# Altium footprint library TI Power Management Lighting and Display.PcbLib: 148 footprints (part 5 of 10)
Each footprint in its own frame and in the unit in brackets; x right, y up, seen from the top. Pads: shape width x height; smd on the part's side, far side on the other; paste and mask are expansions set on the pad; w line width, h text height; cw(c..) or ccw(c..) is an arc to the next point about the centre after c.
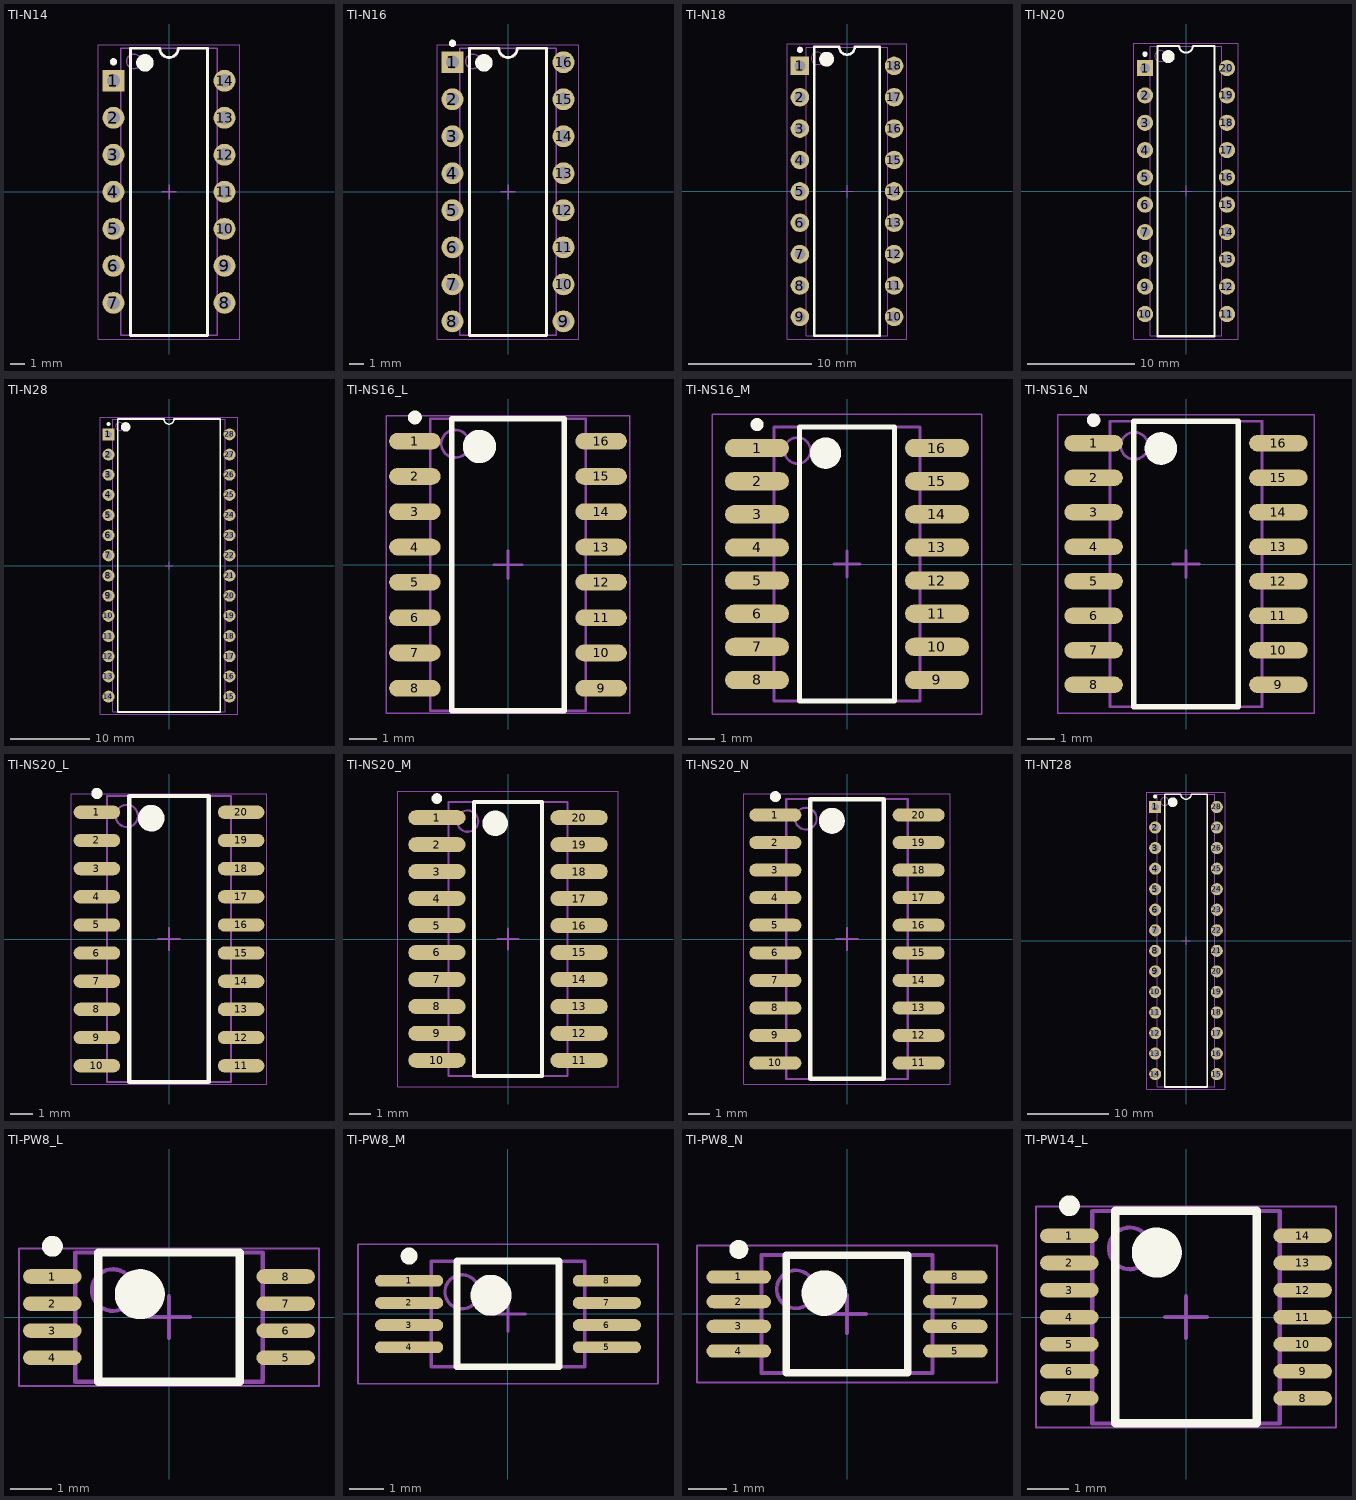
[diagram p4: the footprints below, top view; thin cyan lines are the x and y axes]

## TI-N14 [mm] "DIP, 14-Leads, Body 19.305x6.35 mm, Pitch 2.54 mm"
height 5.08
pads (14):
  rect 1.5x1.5 hole 0.9: 1(-3.81,7.62)
  round 1.5 hole 0.9: 2(-3.81,5.08) 3(-3.81,2.54) 4(-3.81,0) 5(-3.81,-2.54) 6(-3.81,-5.08) 7(-3.81,-7.62) 8(3.81,-7.62) 9(3.81,-5.08) 10(3.81,-2.54) 11(3.81,0) 12(3.81,2.54) 13(3.81,5.08) 14(3.81,7.62)
Top Overlay:
  circle w0.6: c-1.65,8.85 r0.3
  circle w0.25: c-3.81,8.92 r0.125
  lines w0.2: -2.65,-9.85 2.65,-9.85 2.65,9.85 0.635,9.85 cw(c0,9.85) -0.635,9.85 -2.65,9.85 -2.65,-9.85
Mechanical 13:
  circle w0.1: c-2.4,8.95 r0.5
  lines w0.1: -3.3,-9.85 3.3,-9.85 3.3,9.85 -3.3,9.85 -3.3,-9.85
Mechanical 15:
  lines w0.05: -4.85,-10.1 4.85,-10.1 4.85,10.1 -4.85,10.1 -4.85,-10.1
  lines w0.1: -0.5,0 0.5,0 ; 0,-0.5 0,0.5
3D body: height 5.08, standoff 0.51, extent -3.3,-9.85 3.3,9.85

## TI-N16 [mm] "DIP, 16-Leads, Body 19.305x6.35 mm, Pitch 2.54 mm"
height 5.08
pads (16):
  rect 1.5x1.5 hole 0.9: 1(-3.81,8.89)
  round 1.5 hole 0.9: 2(-3.81,6.35) 3(-3.81,3.81) 4(-3.81,1.27) 5(-3.81,-1.27) 6(-3.81,-3.81) 7(-3.81,-6.35) 8(-3.81,-8.89) 9(3.81,-8.89) 10(3.81,-6.35) 11(3.81,-3.81) 12(3.81,-1.27) 13(3.81,1.27) 14(3.81,3.81) 15(3.81,6.35) 16(3.81,8.89)
Top Overlay:
  circle w0.25: c-3.81,10.19 r0.125
  circle w0.6: c-1.65,8.85 r0.3
  lines w0.2: -2.65,-9.85 -2.65,9.85 -0.635,9.85 ccw(c0,9.85) 0.635,9.85 2.65,9.85 2.65,-9.85 -2.65,-9.85
Mechanical 13:
  circle w0.1: c-2.4,8.95 r0.5
  lines w0.1: -3.3,-9.85 -3.3,9.85 3.3,9.85 3.3,-9.85 -3.3,-9.85
Mechanical 15:
  lines w0.05: -4.85,-10.1 -4.85,10.1 4.85,10.1 4.85,-10.1 -4.85,-10.1
  lines w0.1: -0.5,0 0.5,0 ; 0,-0.5 0,0.5
3D body: height 2.66, standoff 0, extent -3.945,8.39 -3.675,9.39
3D body: height 2.93, standoff 2.66, extent -3.945,8.39 -3.3,9.39
3D body: height 0, standoff -1.6, extent -3.945,8.53 -3.675,9.25
3D body: height 2.66, standoff 0, extent -3.945,5.85 -3.675,6.85
3D body: height 2.93, standoff 2.66, extent -3.945,5.85 -3.3,6.85
3D body: height 0, standoff -1.6, extent -3.945,5.99 -3.675,6.71
3D body: height 2.66, standoff 0, extent -3.945,3.31 -3.675,4.31
3D body: height 2.93, standoff 2.66, extent -3.945,3.31 -3.3,4.31
3D body: height 0, standoff -1.6, extent -3.945,3.45 -3.675,4.17
3D body: height 2.66, standoff 0, extent -3.945,0.77 -3.675,1.77
3D body: height 2.93, standoff 2.66, extent -3.945,0.77 -3.3,1.77
3D body: height 0, standoff -1.6, extent -3.945,0.91 -3.675,1.63
3D body: height 2.66, standoff 0, extent -3.945,-1.77 -3.675,-0.77
3D body: height 2.93, standoff 2.66, extent -3.945,-1.77 -3.3,-0.77
3D body: height 0, standoff -1.6, extent -3.945,-1.63 -3.675,-0.91
3D body: height 2.66, standoff 0, extent -3.945,-4.31 -3.675,-3.31
3D body: height 2.93, standoff 2.66, extent -3.945,-4.31 -3.3,-3.31
3D body: height 0, standoff -1.6, extent -3.945,-4.17 -3.675,-3.45
3D body: height 2.66, standoff 0, extent -3.945,-6.85 -3.675,-5.85
3D body: height 2.93, standoff 2.66, extent -3.945,-6.85 -3.3,-5.85
3D body: height 0, standoff -1.6, extent -3.945,-6.71 -3.675,-5.99
3D body: height 2.66, standoff 0, extent -3.945,-9.39 -3.675,-8.39
3D body: height 2.93, standoff 2.66, extent -3.945,-9.39 -3.3,-8.39
3D body: height 0, standoff -1.6, extent -3.945,-9.25 -3.675,-8.53
3D body: height 2.66, standoff 0, extent 3.675,-9.39 3.945,-8.39
3D body: height 2.93, standoff 2.66, extent 3.3,-9.39 3.945,-8.39
3D body: height 0, standoff -1.6, extent 3.675,-9.25 3.945,-8.53
3D body: height 2.66, standoff 0, extent 3.675,-6.85 3.945,-5.85
3D body: height 2.93, standoff 2.66, extent 3.3,-6.85 3.945,-5.85
3D body: height 0, standoff -1.6, extent 3.675,-6.71 3.945,-5.99
3D body: height 2.66, standoff 0, extent 3.675,-4.31 3.945,-3.31
3D body: height 2.93, standoff 2.66, extent 3.3,-4.31 3.945,-3.31
3D body: height 0, standoff -1.6, extent 3.675,-4.17 3.945,-3.45
3D body: height 2.66, standoff 0, extent 3.675,-1.77 3.945,-0.77
3D body: height 2.93, standoff 2.66, extent 3.3,-1.77 3.945,-0.77
3D body: height 0, standoff -1.6, extent 3.675,-1.63 3.945,-0.91
3D body: height 2.66, standoff 0, extent 3.675,0.77 3.945,1.77
3D body: height 2.93, standoff 2.66, extent 3.3,0.77 3.945,1.77
3D body: height 0, standoff -1.6, extent 3.675,0.91 3.945,1.63
3D body: height 2.66, standoff 0, extent 3.675,3.31 3.945,4.31
3D body: height 2.93, standoff 2.66, extent 3.3,3.31 3.945,4.31
3D body: height 0, standoff -1.6, extent 3.675,3.45 3.945,4.17
3D body: height 2.66, standoff 0, extent 3.675,5.85 3.945,6.85
3D body: height 2.93, standoff 2.66, extent 3.3,5.85 3.945,6.85
3D body: height 0, standoff -1.6, extent 3.675,5.99 3.945,6.71
3D body: height 2.66, standoff 0, extent 3.675,8.39 3.945,9.39
3D body: height 2.93, standoff 2.66, extent 3.3,8.39 3.945,9.39
3D body: height 0, standoff -1.6, extent 3.675,8.53 3.945,9.25
3D body: height 5.08, standoff 0.51, extent -3.3,-9.85 3.3,9.85

## TI-N18 [mm] "DIP, 18-Leads, Body 22.48x6.35 mm, Pitch 2.54 mm"
height 5.08
pads (18):
  rect 1.5x1.5 hole 0.9: 1(-3.81,10.16)
  round 1.5 hole 0.9: 2(-3.81,7.62) 3(-3.81,5.08) 4(-3.81,2.54) 5(-3.81,0) 6(-3.81,-2.54) 7(-3.81,-5.08) 8(-3.81,-7.62) 9(-3.81,-10.16) 10(3.81,-10.16) 11(3.81,-7.62) 12(3.81,-5.08) 13(3.81,-2.54) 14(3.81,0) 15(3.81,2.54) 16(3.81,5.08) 17(3.81,7.62) 18(3.81,10.16)
Top Overlay:
  circle w0.25: c-3.81,11.46 r0.125
  circle w0.6: c-1.65,10.7 r0.3
  lines w0.2: -2.65,-11.7 -2.65,11.7 -0.635,11.7 ccw(c0,11.7) 0.635,11.7 2.65,11.7 2.65,-11.7 -2.65,-11.7
Mechanical 13:
  circle w0.1: c-2.4,10.775 r0.5
  lines w0.1: -3.3,-11.675 -3.3,11.675 3.3,11.675 3.3,-11.675 -3.3,-11.675
Mechanical 15:
  lines w0.05: -4.85,-11.95 -4.85,11.95 4.85,11.95 4.85,-11.95 -4.85,-11.95
  lines w0.1: -0.5,0 0.5,0 ; 0,-0.5 0,0.5
3D body: height 2.66, standoff 0, extent -3.945,9.66 -3.675,10.66
3D body: height 2.93, standoff 2.66, extent -3.945,9.66 -3.3,10.66
3D body: height 0, standoff -1.6, extent -3.945,9.8 -3.675,10.52
3D body: height 2.66, standoff 0, extent -3.945,7.12 -3.675,8.12
3D body: height 2.93, standoff 2.66, extent -3.945,7.12 -3.3,8.12
3D body: height 0, standoff -1.6, extent -3.945,7.26 -3.675,7.98
3D body: height 2.66, standoff 0, extent -3.945,4.58 -3.675,5.58
3D body: height 2.93, standoff 2.66, extent -3.945,4.58 -3.3,5.58
3D body: height 0, standoff -1.6, extent -3.945,4.72 -3.675,5.44
3D body: height 2.66, standoff 0, extent -3.945,2.04 -3.675,3.04
3D body: height 2.93, standoff 2.66, extent -3.945,2.04 -3.3,3.04
3D body: height 0, standoff -1.6, extent -3.945,2.18 -3.675,2.9
3D body: height 2.66, standoff 0, extent -3.945,-0.5 -3.675,0.5
3D body: height 2.93, standoff 2.66, extent -3.945,-0.5 -3.3,0.5
3D body: height 0, standoff -1.6, extent -3.945,-0.36 -3.675,0.36
3D body: height 2.66, standoff 0, extent -3.945,-3.04 -3.675,-2.04
3D body: height 2.93, standoff 2.66, extent -3.945,-3.04 -3.3,-2.04
3D body: height 0, standoff -1.6, extent -3.945,-2.9 -3.675,-2.18
3D body: height 2.66, standoff 0, extent -3.945,-5.58 -3.675,-4.58
3D body: height 2.93, standoff 2.66, extent -3.945,-5.58 -3.3,-4.58
3D body: height 0, standoff -1.6, extent -3.945,-5.44 -3.675,-4.72
3D body: height 2.66, standoff 0, extent -3.945,-8.12 -3.675,-7.12
3D body: height 2.93, standoff 2.66, extent -3.945,-8.12 -3.3,-7.12
3D body: height 0, standoff -1.6, extent -3.945,-7.98 -3.675,-7.26
3D body: height 2.66, standoff 0, extent -3.945,-10.66 -3.675,-9.66
3D body: height 2.93, standoff 2.66, extent -3.945,-10.66 -3.3,-9.66
3D body: height 0, standoff -1.6, extent -3.945,-10.52 -3.675,-9.8
3D body: height 2.66, standoff 0, extent 3.675,-10.66 3.945,-9.66
3D body: height 2.93, standoff 2.66, extent 3.3,-10.66 3.945,-9.66
3D body: height 0, standoff -1.6, extent 3.675,-10.52 3.945,-9.8
3D body: height 2.66, standoff 0, extent 3.675,-8.12 3.945,-7.12
3D body: height 2.93, standoff 2.66, extent 3.3,-8.12 3.945,-7.12
3D body: height 0, standoff -1.6, extent 3.675,-7.98 3.945,-7.26
3D body: height 2.66, standoff 0, extent 3.675,-5.58 3.945,-4.58
3D body: height 2.93, standoff 2.66, extent 3.3,-5.58 3.945,-4.58
3D body: height 0, standoff -1.6, extent 3.675,-5.44 3.945,-4.72
3D body: height 2.66, standoff 0, extent 3.675,-3.04 3.945,-2.04
3D body: height 2.93, standoff 2.66, extent 3.3,-3.04 3.945,-2.04
3D body: height 0, standoff -1.6, extent 3.675,-2.9 3.945,-2.18
3D body: height 2.66, standoff 0, extent 3.675,-0.5 3.945,0.5
3D body: height 2.93, standoff 2.66, extent 3.3,-0.5 3.945,0.5
3D body: height 0, standoff -1.6, extent 3.675,-0.36 3.945,0.36
3D body: height 2.66, standoff 0, extent 3.675,2.04 3.945,3.04
3D body: height 2.93, standoff 2.66, extent 3.3,2.04 3.945,3.04
3D body: height 0, standoff -1.6, extent 3.675,2.18 3.945,2.9
3D body: height 2.66, standoff 0, extent 3.675,4.58 3.945,5.58
3D body: height 2.93, standoff 2.66, extent 3.3,4.58 3.945,5.58
3D body: height 0, standoff -1.6, extent 3.675,4.72 3.945,5.44
3D body: height 2.66, standoff 0, extent 3.675,7.12 3.945,8.12
3D body: height 2.93, standoff 2.66, extent 3.3,7.12 3.945,8.12
3D body: height 0, standoff -1.6, extent 3.675,7.26 3.945,7.98
3D body: height 2.66, standoff 0, extent 3.675,9.66 3.945,10.66
3D body: height 2.93, standoff 2.66, extent 3.3,9.66 3.945,10.66
3D body: height 0, standoff -1.6, extent 3.675,9.8 3.945,10.52
3D body: height 5.08, standoff 0.51, extent -3.3,-11.675 3.3,11.675

## TI-N20 [mm] "DIP, 20-Leads, Body 25.4x6.35 mm, Pitch 2.54 mm"
height 5.08
pads (20):
  rect 1.5x1.5 hole 0.9: 1(-3.81,11.43)
  round 1.5 hole 0.9: 2(-3.81,8.89) 3(-3.81,6.35) 4(-3.81,3.81) 5(-3.81,1.27) 6(-3.81,-1.27) 7(-3.81,-3.81) 8(-3.81,-6.35) 9(-3.81,-8.89) 10(-3.81,-11.43) 11(3.81,-11.43) 12(3.81,-8.89) 13(3.81,-6.35) 14(3.81,-3.81) 15(3.81,-1.27) 16(3.81,1.27) 17(3.81,3.81) 18(3.81,6.35) 19(3.81,8.89) 20(3.81,11.43)
Top Overlay:
  circle w0.25: c-3.81,12.73 r0.125
  circle w0.6: c-1.65,12.5 r0.3
  lines w0.2: -2.65,-13.5 -2.65,13.5 -0.635,13.5 ccw(c0,13.5) 0.635,13.5 2.65,13.5 2.65,-13.5 -2.65,-13.5
Mechanical 13:
  circle w0.1: c-2.4,12.55 r0.5
  lines w0.1: -3.3,-13.45 -3.3,13.45 3.3,13.45 3.3,-13.45 -3.3,-13.45
Mechanical 15:
  lines w0.05: -4.85,-13.75 -4.85,13.75 4.85,13.75 4.85,-13.75 -4.85,-13.75
  lines w0.1: -0.5,0 0.5,0 ; 0,-0.5 0,0.5
3D body: height 2.66, standoff 0, extent -3.945,10.93 -3.675,11.93
3D body: height 2.93, standoff 2.66, extent -3.945,10.93 -3.3,11.93
3D body: height 0, standoff -1.6, extent -3.945,11.07 -3.675,11.79
3D body: height 2.66, standoff 0, extent -3.945,8.39 -3.675,9.39
3D body: height 2.93, standoff 2.66, extent -3.945,8.39 -3.3,9.39
3D body: height 0, standoff -1.6, extent -3.945,8.53 -3.675,9.25
3D body: height 2.66, standoff 0, extent -3.945,5.85 -3.675,6.85
3D body: height 2.93, standoff 2.66, extent -3.945,5.85 -3.3,6.85
3D body: height 0, standoff -1.6, extent -3.945,5.99 -3.675,6.71
3D body: height 2.66, standoff 0, extent -3.945,3.31 -3.675,4.31
3D body: height 2.93, standoff 2.66, extent -3.945,3.31 -3.3,4.31
3D body: height 0, standoff -1.6, extent -3.945,3.45 -3.675,4.17
3D body: height 2.66, standoff 0, extent -3.945,0.77 -3.675,1.77
3D body: height 2.93, standoff 2.66, extent -3.945,0.77 -3.3,1.77
3D body: height 0, standoff -1.6, extent -3.945,0.91 -3.675,1.63
3D body: height 2.66, standoff 0, extent -3.945,-1.77 -3.675,-0.77
3D body: height 2.93, standoff 2.66, extent -3.945,-1.77 -3.3,-0.77
3D body: height 0, standoff -1.6, extent -3.945,-1.63 -3.675,-0.91
3D body: height 2.66, standoff 0, extent -3.945,-4.31 -3.675,-3.31
3D body: height 2.93, standoff 2.66, extent -3.945,-4.31 -3.3,-3.31
3D body: height 0, standoff -1.6, extent -3.945,-4.17 -3.675,-3.45
3D body: height 2.66, standoff 0, extent -3.945,-6.85 -3.675,-5.85
3D body: height 2.93, standoff 2.66, extent -3.945,-6.85 -3.3,-5.85
3D body: height 0, standoff -1.6, extent -3.945,-6.71 -3.675,-5.99
3D body: height 2.66, standoff 0, extent -3.945,-9.39 -3.675,-8.39
3D body: height 2.93, standoff 2.66, extent -3.945,-9.39 -3.3,-8.39
3D body: height 0, standoff -1.6, extent -3.945,-9.25 -3.675,-8.53
3D body: height 2.66, standoff 0, extent -3.945,-11.93 -3.675,-10.93
3D body: height 2.93, standoff 2.66, extent -3.945,-11.93 -3.3,-10.93
3D body: height 0, standoff -1.6, extent -3.945,-11.79 -3.675,-11.07
3D body: height 2.66, standoff 0, extent 3.675,-11.93 3.945,-10.93
3D body: height 2.93, standoff 2.66, extent 3.3,-11.93 3.945,-10.93
3D body: height 0, standoff -1.6, extent 3.675,-11.79 3.945,-11.07
3D body: height 2.66, standoff 0, extent 3.675,-9.39 3.945,-8.39
3D body: height 2.93, standoff 2.66, extent 3.3,-9.39 3.945,-8.39
3D body: height 0, standoff -1.6, extent 3.675,-9.25 3.945,-8.53
3D body: height 2.66, standoff 0, extent 3.675,-6.85 3.945,-5.85
3D body: height 2.93, standoff 2.66, extent 3.3,-6.85 3.945,-5.85
3D body: height 0, standoff -1.6, extent 3.675,-6.71 3.945,-5.99
3D body: height 2.66, standoff 0, extent 3.675,-4.31 3.945,-3.31
3D body: height 2.93, standoff 2.66, extent 3.3,-4.31 3.945,-3.31
3D body: height 0, standoff -1.6, extent 3.675,-4.17 3.945,-3.45
3D body: height 2.66, standoff 0, extent 3.675,-1.77 3.945,-0.77
3D body: height 2.93, standoff 2.66, extent 3.3,-1.77 3.945,-0.77
3D body: height 0, standoff -1.6, extent 3.675,-1.63 3.945,-0.91
3D body: height 2.66, standoff 0, extent 3.675,0.77 3.945,1.77
3D body: height 2.93, standoff 2.66, extent 3.3,0.77 3.945,1.77
3D body: height 0, standoff -1.6, extent 3.675,0.91 3.945,1.63
3D body: height 2.66, standoff 0, extent 3.675,3.31 3.945,4.31
3D body: height 2.93, standoff 2.66, extent 3.3,3.31 3.945,4.31
3D body: height 0, standoff -1.6, extent 3.675,3.45 3.945,4.17
3D body: height 2.66, standoff 0, extent 3.675,5.85 3.945,6.85
3D body: height 2.93, standoff 2.66, extent 3.3,5.85 3.945,6.85
3D body: height 0, standoff -1.6, extent 3.675,5.99 3.945,6.71
3D body: height 2.66, standoff 0, extent 3.675,8.39 3.945,9.39
3D body: height 2.93, standoff 2.66, extent 3.3,8.39 3.945,9.39
3D body: height 0, standoff -1.6, extent 3.675,8.53 3.945,9.25
3D body: height 2.66, standoff 0, extent 3.675,10.93 3.945,11.93
3D body: height 2.93, standoff 2.66, extent 3.3,10.93 3.945,11.93
3D body: height 0, standoff -1.6, extent 3.675,11.07 3.945,11.79
3D body: height 5.08, standoff 0.51, extent -3.3,-13.45 3.3,13.45

## TI-N28 [mm] "DIP, 28-Leads, Body 36.32x13.715 mm, Pitch 2.54 mm"
height 5.08
pads (28):
  rect 1.5x1.5 hole 0.9: 1(-7.62,16.51)
  round 1.5 hole 0.9: 2(-7.62,13.97) 3(-7.62,11.43) 4(-7.62,8.89) 5(-7.62,6.35) 6(-7.62,3.81) 7(-7.62,1.27) 8(-7.62,-1.27) 9(-7.62,-3.81) 10(-7.62,-6.35) 11(-7.62,-8.89) 12(-7.62,-11.43) 13(-7.62,-13.97) 14(-7.62,-16.51) 15(7.62,-16.51) 16(7.62,-13.97) 17(7.62,-11.43) 18(7.62,-8.89) 19(7.62,-6.35) 20(7.62,-3.81) 21(7.62,-1.27) 22(7.62,1.27) 23(7.62,3.81) 24(7.62,6.35) 25(7.62,8.89) 26(7.62,11.43) 27(7.62,13.97) 28(7.62,16.51)
Top Overlay:
  circle w0.25: c-7.62,17.81 r0.125
  circle w0.6: c-5.45,17.45 r0.3
  lines w0.2: -6.45,-18.45 -6.45,18.45 -0.635,18.45 ccw(c0,18.45) 0.635,18.45 6.45,18.45 6.45,-18.45 -6.45,-18.45
Mechanical 13:
  circle w0.1: c-6.2,17.525 r0.5
  lines w0.1: -7.1,-18.425 -7.1,18.425 7.1,18.425 7.1,-18.425 -7.1,-18.425
Mechanical 15:
  lines w0.05: -8.65,-18.7 -8.65,18.7 8.65,18.7 8.65,-18.7 -8.65,-18.7
  lines w0.1: -0.5,0 0.5,0 ; 0,-0.5 0,0.5
3D body: height 2.66, standoff 0, extent -7.755,16.01 -7.485,17.01
3D body: height 2.93, standoff 2.66, extent -7.755,16.01 -7.1,17.01
3D body: height 0, standoff -1.6, extent -7.755,16.15 -7.485,16.87
3D body: height 2.66, standoff 0, extent -7.755,13.47 -7.485,14.47
3D body: height 2.93, standoff 2.66, extent -7.755,13.47 -7.1,14.47
3D body: height 0, standoff -1.6, extent -7.755,13.61 -7.485,14.33
3D body: height 2.66, standoff 0, extent -7.755,10.93 -7.485,11.93
3D body: height 2.93, standoff 2.66, extent -7.755,10.93 -7.1,11.93
3D body: height 0, standoff -1.6, extent -7.755,11.07 -7.485,11.79
3D body: height 2.66, standoff 0, extent -7.755,8.39 -7.485,9.39
3D body: height 2.93, standoff 2.66, extent -7.755,8.39 -7.1,9.39
3D body: height 0, standoff -1.6, extent -7.755,8.53 -7.485,9.25
3D body: height 2.66, standoff 0, extent -7.755,5.85 -7.485,6.85
3D body: height 2.93, standoff 2.66, extent -7.755,5.85 -7.1,6.85
3D body: height 0, standoff -1.6, extent -7.755,5.99 -7.485,6.71
3D body: height 2.66, standoff 0, extent -7.755,3.31 -7.485,4.31
3D body: height 2.93, standoff 2.66, extent -7.755,3.31 -7.1,4.31
3D body: height 0, standoff -1.6, extent -7.755,3.45 -7.485,4.17
3D body: height 2.66, standoff 0, extent -7.755,0.77 -7.485,1.77
3D body: height 2.93, standoff 2.66, extent -7.755,0.77 -7.1,1.77
3D body: height 0, standoff -1.6, extent -7.755,0.91 -7.485,1.63
3D body: height 2.66, standoff 0, extent -7.755,-1.77 -7.485,-0.77
3D body: height 2.93, standoff 2.66, extent -7.755,-1.77 -7.1,-0.77
3D body: height 0, standoff -1.6, extent -7.755,-1.63 -7.485,-0.91
3D body: height 2.66, standoff 0, extent -7.755,-4.31 -7.485,-3.31
3D body: height 2.93, standoff 2.66, extent -7.755,-4.31 -7.1,-3.31
3D body: height 0, standoff -1.6, extent -7.755,-4.17 -7.485,-3.45
3D body: height 2.66, standoff 0, extent -7.755,-6.85 -7.485,-5.85
3D body: height 2.93, standoff 2.66, extent -7.755,-6.85 -7.1,-5.85
3D body: height 0, standoff -1.6, extent -7.755,-6.71 -7.485,-5.99
3D body: height 2.66, standoff 0, extent -7.755,-9.39 -7.485,-8.39
3D body: height 2.93, standoff 2.66, extent -7.755,-9.39 -7.1,-8.39
3D body: height 0, standoff -1.6, extent -7.755,-9.25 -7.485,-8.53
3D body: height 2.66, standoff 0, extent -7.755,-11.93 -7.485,-10.93
3D body: height 2.93, standoff 2.66, extent -7.755,-11.93 -7.1,-10.93
3D body: height 0, standoff -1.6, extent -7.755,-11.79 -7.485,-11.07
3D body: height 2.66, standoff 0, extent -7.755,-14.47 -7.485,-13.47
3D body: height 2.93, standoff 2.66, extent -7.755,-14.47 -7.1,-13.47
3D body: height 0, standoff -1.6, extent -7.755,-14.33 -7.485,-13.61
3D body: height 2.66, standoff 0, extent -7.755,-17.01 -7.485,-16.01
3D body: height 2.93, standoff 2.66, extent -7.755,-17.01 -7.1,-16.01
3D body: height 0, standoff -1.6, extent -7.755,-16.87 -7.485,-16.15
3D body: height 2.66, standoff 0, extent 7.485,-17.01 7.755,-16.01
3D body: height 2.93, standoff 2.66, extent 7.1,-17.01 7.755,-16.01
3D body: height 0, standoff -1.6, extent 7.485,-16.87 7.755,-16.15
3D body: height 2.66, standoff 0, extent 7.485,-14.47 7.755,-13.47
3D body: height 2.93, standoff 2.66, extent 7.1,-14.47 7.755,-13.47
3D body: height 0, standoff -1.6, extent 7.485,-14.33 7.755,-13.61
3D body: height 2.66, standoff 0, extent 7.485,-11.93 7.755,-10.93
3D body: height 2.93, standoff 2.66, extent 7.1,-11.93 7.755,-10.93
3D body: height 0, standoff -1.6, extent 7.485,-11.79 7.755,-11.07
3D body: height 2.66, standoff 0, extent 7.485,-9.39 7.755,-8.39
3D body: height 2.93, standoff 2.66, extent 7.1,-9.39 7.755,-8.39
3D body: height 0, standoff -1.6, extent 7.485,-9.25 7.755,-8.53
3D body: height 2.66, standoff 0, extent 7.485,-6.85 7.755,-5.85
3D body: height 2.93, standoff 2.66, extent 7.1,-6.85 7.755,-5.85
3D body: height 0, standoff -1.6, extent 7.485,-6.71 7.755,-5.99
3D body: height 2.66, standoff 0, extent 7.485,-4.31 7.755,-3.31
3D body: height 2.93, standoff 2.66, extent 7.1,-4.31 7.755,-3.31
3D body: height 0, standoff -1.6, extent 7.485,-4.17 7.755,-3.45
3D body: height 2.66, standoff 0, extent 7.485,-1.77 7.755,-0.77
3D body: height 2.93, standoff 2.66, extent 7.1,-1.77 7.755,-0.77
3D body: height 0, standoff -1.6, extent 7.485,-1.63 7.755,-0.91
3D body: height 2.66, standoff 0, extent 7.485,0.77 7.755,1.77
3D body: height 2.93, standoff 2.66, extent 7.1,0.77 7.755,1.77
3D body: height 0, standoff -1.6, extent 7.485,0.91 7.755,1.63
3D body: height 2.66, standoff 0, extent 7.485,3.31 7.755,4.31
3D body: height 2.93, standoff 2.66, extent 7.1,3.31 7.755,4.31
3D body: height 0, standoff -1.6, extent 7.485,3.45 7.755,4.17
3D body: height 2.66, standoff 0, extent 7.485,5.85 7.755,6.85
3D body: height 2.93, standoff 2.66, extent 7.1,5.85 7.755,6.85
3D body: height 0, standoff -1.6, extent 7.485,5.99 7.755,6.71
3D body: height 2.66, standoff 0, extent 7.485,8.39 7.755,9.39
3D body: height 2.93, standoff 2.66, extent 7.1,8.39 7.755,9.39
3D body: height 0, standoff -1.6, extent 7.485,8.53 7.755,9.25
3D body: height 2.66, standoff 0, extent 7.485,10.93 7.755,11.93
3D body: height 2.93, standoff 2.66, extent 7.1,10.93 7.755,11.93
3D body: height 0, standoff -1.6, extent 7.485,11.07 7.755,11.79
3D body: height 2.66, standoff 0, extent 7.485,13.47 7.755,14.47
3D body: height 2.93, standoff 2.66, extent 7.1,13.47 7.755,14.47
3D body: height 0, standoff -1.6, extent 7.485,13.61 7.755,14.33
3D body: height 2.66, standoff 0, extent 7.485,16.01 7.755,17.01
3D body: height 2.93, standoff 2.66, extent 7.1,16.01 7.755,17.01
3D body: height 0, standoff -1.6, extent 7.485,16.15 7.755,16.87
3D body: height 5.08, standoff 0.51, extent -7.1,-18.425 7.1,18.425

## TI-NS16_L [mm] "SOP, 16-Leads, Body 10.2x5.3mm, Pitch 1.27mm, IPC High Density"
height 2
pads (16):
  oval 1.85x0.6 smd: 1(-3.35,4.445) 2(-3.35,3.175) 3(-3.35,1.905) 4(-3.35,0.635) 5(-3.35,-0.635) 6(-3.35,-1.905) 7(-3.35,-3.175) 8(-3.35,-4.445) 9(3.35,-4.445) 10(3.35,-3.175) 11(3.35,-1.905) 12(3.35,-0.635) 13(3.35,0.635) 14(3.35,1.905) 15(3.35,3.175) 16(3.35,4.445)
Top Overlay:
  circle w0.25: c-3.35,5.295 r0.125
  circle w0.6: c-1.025,4.25 r0.3
  lines w0.2: -2.025,-5.25 -2.025,5.25 2.025,5.25 2.025,-5.25 -2.025,-5.25
Mechanical 13:
  circle w0.1: c-1.9,4.35 r0.5
  lines w0.1: -2.8,-5.25 -2.8,5.25 2.8,5.25 2.8,-5.25 -2.8,-5.25
Mechanical 15:
  lines w0.05: -4.375,-5.35 -4.375,5.35 4.375,5.35 4.375,-5.35 -4.375,-5.35
  lines w0.1: -0.5,0 0.5,0 ; 0,-0.5 0,0.5
3D body: height 2, standoff 0.05, extent -2.8,-5.25 2.8,5.25

## TI-NS16_M [mm] "SOP, 16-Leads, Body 10.2x5.3mm, Pitch 1.27mm, IPC Low Density"
height 2
pads (16):
  oval 2.45x0.7 smd: 1(-3.45,4.445) 2(-3.45,3.175) 3(-3.45,1.905) 4(-3.45,0.635) 5(-3.45,-0.635) 6(-3.45,-1.905) 7(-3.45,-3.175) 8(-3.45,-4.445) 9(3.45,-4.445) 10(3.45,-3.175) 11(3.45,-1.905) 12(3.45,-0.635) 13(3.45,0.635) 14(3.45,1.905) 15(3.45,3.175) 16(3.45,4.445)
Top Overlay:
  circle w0.25: c-3.45,5.345 r0.125
  circle w0.6: c-0.825,4.25 r0.3
  lines w0.2: -1.825,-5.25 -1.825,5.25 1.825,5.25 1.825,-5.25 -1.825,-5.25
Mechanical 13:
  circle w0.1: c-1.9,4.35 r0.5
  lines w0.1: -2.8,-5.25 -2.8,5.25 2.8,5.25 2.8,-5.25 -2.8,-5.25
Mechanical 15:
  lines w0.05: -5.175,-5.75 -5.175,5.75 5.175,5.75 5.175,-5.75 -5.175,-5.75
  lines w0.1: -0.5,0 0.5,0 ; 0,-0.5 0,0.5
3D body: height 2, standoff 0.05, extent -2.8,-5.25 2.8,5.25

## TI-NS16_N [mm] "SOP, 16-Leads, Body 10.2x5.3mm, Pitch 1.27mm, IPC Medium Density"
height 2
pads (16):
  oval 2.15x0.6 smd: 1(-3.4,4.445) 2(-3.4,3.175) 3(-3.4,1.905) 4(-3.4,0.635) 5(-3.4,-0.635) 6(-3.4,-1.905) 7(-3.4,-3.175) 8(-3.4,-4.445) 9(3.4,-4.445) 10(3.4,-3.175) 11(3.4,-1.905) 12(3.4,-0.635) 13(3.4,0.635) 14(3.4,1.905) 15(3.4,3.175) 16(3.4,4.445)
Top Overlay:
  circle w0.6: c-0.925,4.25 r0.3
  circle w0.25: c-3.4,5.295 r0.125
  lines w0.2: -1.925,-5.25 1.925,-5.25 1.925,5.25 -1.925,5.25 -1.925,-5.25
Mechanical 13:
  circle w0.1: c-1.9,4.35 r0.5
  lines w0.1: -2.8,-5.25 2.8,-5.25 2.8,5.25 -2.8,5.25 -2.8,-5.25
Mechanical 15:
  lines w0.05: -4.725,-5.5 4.725,-5.5 4.725,5.5 -4.725,5.5 -4.725,-5.5
  lines w0.1: -0.5,0 0.5,0 ; 0,-0.5 0,0.5
3D body: height 2, standoff 0.05, extent -2.8,-5.25 2.8,5.25

## TI-NS20_L [mm] "SOP, 20-Leads, Body 12.6x5.3mm, Pitch 1.27mm, IPC High Density"
height 2
pads (20):
  oval 2.1x0.6 smd: 1(-3.25,5.715) 2(-3.25,4.445) 3(-3.25,3.175) 4(-3.25,1.905) 5(-3.25,0.635) 6(-3.25,-0.635) 7(-3.25,-1.905) 8(-3.25,-3.175) 9(-3.25,-4.445) 10(-3.25,-5.715) 11(3.25,-5.715) 12(3.25,-4.445) 13(3.25,-3.175) 14(3.25,-1.905) 15(3.25,-0.635) 16(3.25,0.635) 17(3.25,1.905) 18(3.25,3.175) 19(3.25,4.445) 20(3.25,5.715)
Top Overlay:
  circle w0.25: c-3.25,6.565 r0.125
  circle w0.6: c-0.8,5.45 r0.3
  lines w0.2: -1.8,-6.45 -1.8,6.45 1.8,6.45 1.8,-6.45 -1.8,-6.45
Mechanical 13:
  circle w0.1: c-1.9,5.55 r0.5
  lines w0.1: -2.8,-6.45 -2.8,6.45 2.8,6.45 2.8,-6.45 -2.8,-6.45
Mechanical 15:
  lines w0.05: -4.4,-6.55 -4.4,6.55 4.4,6.55 4.4,-6.55 -4.4,-6.55
  lines w0.1: -0.5,0 0.5,0 ; 0,-0.5 0,0.5
3D body: height 2, standoff 0.05, extent -2.8,-6.45 2.8,6.45

## TI-NS20_M [mm] "SOP, 20-Leads, Body 12.6x5.3mm, Pitch 1.27mm, IPC Low Density"
height 2
pads (20):
  oval 2.7x0.7 smd: 1(-3.35,5.715) 2(-3.35,4.445) 3(-3.35,3.175) 4(-3.35,1.905) 5(-3.35,0.635) 6(-3.35,-0.635) 7(-3.35,-1.905) 8(-3.35,-3.175) 9(-3.35,-4.445) 10(-3.35,-5.715) 11(3.35,-5.715) 12(3.35,-4.445) 13(3.35,-3.175) 14(3.35,-1.905) 15(3.35,-0.635) 16(3.35,0.635) 17(3.35,1.905) 18(3.35,3.175) 19(3.35,4.445) 20(3.35,5.715)
Top Overlay:
  circle w0.25: c-3.35,6.615 r0.125
  circle w0.6: c-0.6,5.45 r0.3
  lines w0.2: -1.6,-6.45 -1.6,6.45 1.6,6.45 1.6,-6.45 -1.6,-6.45
Mechanical 13:
  circle w0.1: c-1.9,5.55 r0.5
  lines w0.1: -2.8,-6.45 -2.8,6.45 2.8,6.45 2.8,-6.45 -2.8,-6.45
Mechanical 15:
  lines w0.05: -5.2,-6.95 -5.2,6.95 5.2,6.95 5.2,-6.95 -5.2,-6.95
  lines w0.1: -0.5,0 0.5,0 ; 0,-0.5 0,0.5
3D body: height 2, standoff 0.05, extent -2.8,-6.45 2.8,6.45

## TI-NS20_N [mm] "SOP, 20-Leads, Body 12.6x5.3mm, Pitch 1.27mm, IPC Medium Density"
height 2
pads (20):
  oval 2.4x0.6 smd: 1(-3.3,5.715) 2(-3.3,4.445) 3(-3.3,3.175) 4(-3.3,1.905) 5(-3.3,0.635) 6(-3.3,-0.635) 7(-3.3,-1.905) 8(-3.3,-3.175) 9(-3.3,-4.445) 10(-3.3,-5.715) 11(3.3,-5.715) 12(3.3,-4.445) 13(3.3,-3.175) 14(3.3,-1.905) 15(3.3,-0.635) 16(3.3,0.635) 17(3.3,1.905) 18(3.3,3.175) 19(3.3,4.445) 20(3.3,5.715)
Top Overlay:
  circle w0.25: c-3.3,6.565 r0.125
  circle w0.6: c-0.7,5.45 r0.3
  lines w0.2: -1.7,-6.45 -1.7,6.45 1.7,6.45 1.7,-6.45 -1.7,-6.45
Mechanical 13:
  circle w0.1: c-1.9,5.55 r0.5
  lines w0.1: -2.8,-6.45 -2.8,6.45 2.8,6.45 2.8,-6.45 -2.8,-6.45
Mechanical 15:
  lines w0.05: -4.75,-6.7 -4.75,6.7 4.75,6.7 4.75,-6.7 -4.75,-6.7
  lines w0.1: -0.5,0 0.5,0 ; 0,-0.5 0,0.5
3D body: height 2, standoff 0.05, extent -2.8,-6.45 2.8,6.45

## TI-NT28 [mm] "DIP, 28-Leads, Body 35.69x6.73mm, Pitch 2.54mm"
height 5.08
pads (28):
  rect 1.5x1.5 hole 0.9: 1(-3.81,16.51)
  round 1.5 hole 0.9: 2(-3.81,13.97) 3(-3.81,11.43) 4(-3.81,8.89) 5(-3.81,6.35) 6(-3.81,3.81) 7(-3.81,1.27) 8(-3.81,-1.27) 9(-3.81,-3.81) 10(-3.81,-6.35) 11(-3.81,-8.89) 12(-3.81,-11.43) 13(-3.81,-13.97) 14(-3.81,-16.51) 15(3.81,-16.51) 16(3.81,-13.97) 17(3.81,-11.43) 18(3.81,-8.89) 19(3.81,-6.35) 20(3.81,-3.81) 21(3.81,-1.27) 22(3.81,1.27) 23(3.81,3.81) 24(3.81,6.35) 25(3.81,8.89) 26(3.81,11.43) 27(3.81,13.97) 28(3.81,16.51)
Top Overlay:
  circle w0.25: c-3.81,17.81 r0.125
  circle w0.6: c-1.65,17.1 r0.3
  lines w0.2: -2.65,-18.1 -2.65,18.1 -0.635,18.1 ccw(c0,18.1) 0.635,18.1 2.65,18.1 2.65,-18.1 -2.65,-18.1
Mechanical 13:
  circle w0.1: c-2.65,17.2 r0.5
  lines w0.1: -3.55,-18.1 -3.55,18.1 3.55,18.1 3.55,-18.1 -3.55,-18.1
Mechanical 15:
  lines w0.05: -4.85,-18.35 -4.85,18.35 4.85,18.35 4.85,-18.35 -4.85,-18.35
  lines w0.1: -0.5,0 0.5,0 ; 0,-0.5 0,0.5
3D body: height 2.66, standoff 0, extent -3.945,16.01 -3.675,17.01
3D body: height 2.93, standoff 2.66, extent -3.945,16.01 -3.55,17.01
3D body: height 0, standoff -1.6, extent -3.945,16.15 -3.675,16.87
3D body: height 2.66, standoff 0, extent -3.945,13.47 -3.675,14.47
3D body: height 2.93, standoff 2.66, extent -3.945,13.47 -3.55,14.47
3D body: height 0, standoff -1.6, extent -3.945,13.61 -3.675,14.33
3D body: height 2.66, standoff 0, extent -3.945,10.93 -3.675,11.93
3D body: height 2.93, standoff 2.66, extent -3.945,10.93 -3.55,11.93
3D body: height 0, standoff -1.6, extent -3.945,11.07 -3.675,11.79
3D body: height 2.66, standoff 0, extent -3.945,8.39 -3.675,9.39
3D body: height 2.93, standoff 2.66, extent -3.945,8.39 -3.55,9.39
3D body: height 0, standoff -1.6, extent -3.945,8.53 -3.675,9.25
3D body: height 2.66, standoff 0, extent -3.945,5.85 -3.675,6.85
3D body: height 2.93, standoff 2.66, extent -3.945,5.85 -3.55,6.85
3D body: height 0, standoff -1.6, extent -3.945,5.99 -3.675,6.71
3D body: height 2.66, standoff 0, extent -3.945,3.31 -3.675,4.31
3D body: height 2.93, standoff 2.66, extent -3.945,3.31 -3.55,4.31
3D body: height 0, standoff -1.6, extent -3.945,3.45 -3.675,4.17
3D body: height 2.66, standoff 0, extent -3.945,0.77 -3.675,1.77
3D body: height 2.93, standoff 2.66, extent -3.945,0.77 -3.55,1.77
3D body: height 0, standoff -1.6, extent -3.945,0.91 -3.675,1.63
3D body: height 2.66, standoff 0, extent -3.945,-1.77 -3.675,-0.77
3D body: height 2.93, standoff 2.66, extent -3.945,-1.77 -3.55,-0.77
3D body: height 0, standoff -1.6, extent -3.945,-1.63 -3.675,-0.91
3D body: height 2.66, standoff 0, extent -3.945,-4.31 -3.675,-3.31
3D body: height 2.93, standoff 2.66, extent -3.945,-4.31 -3.55,-3.31
3D body: height 0, standoff -1.6, extent -3.945,-4.17 -3.675,-3.45
3D body: height 2.66, standoff 0, extent -3.945,-6.85 -3.675,-5.85
3D body: height 2.93, standoff 2.66, extent -3.945,-6.85 -3.55,-5.85
3D body: height 0, standoff -1.6, extent -3.945,-6.71 -3.675,-5.99
3D body: height 2.66, standoff 0, extent -3.945,-9.39 -3.675,-8.39
3D body: height 2.93, standoff 2.66, extent -3.945,-9.39 -3.55,-8.39
3D body: height 0, standoff -1.6, extent -3.945,-9.25 -3.675,-8.53
3D body: height 2.66, standoff 0, extent -3.945,-11.93 -3.675,-10.93
3D body: height 2.93, standoff 2.66, extent -3.945,-11.93 -3.55,-10.93
3D body: height 0, standoff -1.6, extent -3.945,-11.79 -3.675,-11.07
3D body: height 2.66, standoff 0, extent -3.945,-14.47 -3.675,-13.47
3D body: height 2.93, standoff 2.66, extent -3.945,-14.47 -3.55,-13.47
3D body: height 0, standoff -1.6, extent -3.945,-14.33 -3.675,-13.61
3D body: height 2.66, standoff 0, extent -3.945,-17.01 -3.675,-16.01
3D body: height 2.93, standoff 2.66, extent -3.945,-17.01 -3.55,-16.01
3D body: height 0, standoff -1.6, extent -3.945,-16.87 -3.675,-16.15
3D body: height 2.66, standoff 0, extent 3.675,-17.01 3.945,-16.01
3D body: height 2.93, standoff 2.66, extent 3.55,-17.01 3.945,-16.01
3D body: height 0, standoff -1.6, extent 3.675,-16.87 3.945,-16.15
3D body: height 2.66, standoff 0, extent 3.675,-14.47 3.945,-13.47
3D body: height 2.93, standoff 2.66, extent 3.55,-14.47 3.945,-13.47
3D body: height 0, standoff -1.6, extent 3.675,-14.33 3.945,-13.61
3D body: height 2.66, standoff 0, extent 3.675,-11.93 3.945,-10.93
3D body: height 2.93, standoff 2.66, extent 3.55,-11.93 3.945,-10.93
3D body: height 0, standoff -1.6, extent 3.675,-11.79 3.945,-11.07
3D body: height 2.66, standoff 0, extent 3.675,-9.39 3.945,-8.39
3D body: height 2.93, standoff 2.66, extent 3.55,-9.39 3.945,-8.39
3D body: height 0, standoff -1.6, extent 3.675,-9.25 3.945,-8.53
3D body: height 2.66, standoff 0, extent 3.675,-6.85 3.945,-5.85
3D body: height 2.93, standoff 2.66, extent 3.55,-6.85 3.945,-5.85
3D body: height 0, standoff -1.6, extent 3.675,-6.71 3.945,-5.99
3D body: height 2.66, standoff 0, extent 3.675,-4.31 3.945,-3.31
3D body: height 2.93, standoff 2.66, extent 3.55,-4.31 3.945,-3.31
3D body: height 0, standoff -1.6, extent 3.675,-4.17 3.945,-3.45
3D body: height 2.66, standoff 0, extent 3.675,-1.77 3.945,-0.77
3D body: height 2.93, standoff 2.66, extent 3.55,-1.77 3.945,-0.77
3D body: height 0, standoff -1.6, extent 3.675,-1.63 3.945,-0.91
3D body: height 2.66, standoff 0, extent 3.675,0.77 3.945,1.77
3D body: height 2.93, standoff 2.66, extent 3.55,0.77 3.945,1.77
3D body: height 0, standoff -1.6, extent 3.675,0.91 3.945,1.63
3D body: height 2.66, standoff 0, extent 3.675,3.31 3.945,4.31
3D body: height 2.93, standoff 2.66, extent 3.55,3.31 3.945,4.31
3D body: height 0, standoff -1.6, extent 3.675,3.45 3.945,4.17
3D body: height 2.66, standoff 0, extent 3.675,5.85 3.945,6.85
3D body: height 2.93, standoff 2.66, extent 3.55,5.85 3.945,6.85
3D body: height 0, standoff -1.6, extent 3.675,5.99 3.945,6.71
3D body: height 2.66, standoff 0, extent 3.675,8.39 3.945,9.39
3D body: height 2.93, standoff 2.66, extent 3.55,8.39 3.945,9.39
3D body: height 0, standoff -1.6, extent 3.675,8.53 3.945,9.25
3D body: height 2.66, standoff 0, extent 3.675,10.93 3.945,11.93
3D body: height 2.93, standoff 2.66, extent 3.55,10.93 3.945,11.93
3D body: height 0, standoff -1.6, extent 3.675,11.07 3.945,11.79
3D body: height 2.66, standoff 0, extent 3.675,13.47 3.945,14.47
3D body: height 2.93, standoff 2.66, extent 3.55,13.47 3.945,14.47
3D body: height 0, standoff -1.6, extent 3.675,13.61 3.945,14.33
3D body: height 2.66, standoff 0, extent 3.675,16.01 3.945,17.01
3D body: height 2.93, standoff 2.66, extent 3.55,16.01 3.945,17.01
3D body: height 0, standoff -1.6, extent 3.675,16.15 3.945,16.87
3D body: height 5.08, standoff 0.51, extent -3.55,-18.1 3.55,18.1

## TI-PW8_L [mm] "SOP, 8-Leads, Body 4.4x3mm, Pitch 0.65mm, IPC High Density"
height 1.2
pads (8):
  oval 1.4x0.35 smd: 1(-2.8,0.975) 2(-2.8,0.325) 3(-2.8,-0.325) 4(-2.8,-0.975) 5(2.8,-0.975) 6(2.8,-0.325) 7(2.8,0.325) 8(2.8,0.975)
Top Overlay:
  circle w0.25: c-2.8,1.7 r0.125
  circle w0.6: c-0.7,0.55 r0.3
  lines w0.2: -1.7,-1.55 -1.7,1.55 1.7,1.55 1.7,-1.55 -1.7,-1.55
Mechanical 13:
  circle w0.1: c-1.35,0.65 r0.5
  lines w0.1: -2.25,-1.55 -2.25,1.55 2.25,1.55 2.25,-1.55 -2.25,-1.55
Mechanical 15:
  lines w0.05: -3.6,-1.65 -3.6,1.65 3.6,1.65 3.6,-1.65 -3.6,-1.65
  lines w0.1: -0.5,0 0.5,0 ; 0,-0.5 0,0.5
3D body: height 1.2, standoff 0.05, extent -2.25,-1.55 2.25,1.55

## TI-PW8_M [mm] "SOP, 8-Leads, Body 4.4x3mm, Pitch 0.65mm, IPC Low Density"
height 1.2
pads (8):
  oval 2x0.35 smd: 1(-2.9,0.975) 2(-2.9,0.325) 3(-2.9,-0.325) 4(-2.9,-0.975) 5(2.9,-0.975) 6(2.9,-0.325) 7(2.9,0.325) 8(2.9,0.975)
Top Overlay:
  circle w0.25: c-2.9,1.7 r0.125
  circle w0.6: c-0.5,0.55 r0.3
  lines w0.2: -1.5,-1.55 -1.5,1.55 1.5,1.55 1.5,-1.55 -1.5,-1.55
Mechanical 13:
  circle w0.1: c-1.35,0.65 r0.5
  lines w0.1: -2.25,-1.55 -2.25,1.55 2.25,1.55 2.25,-1.55 -2.25,-1.55
Mechanical 15:
  lines w0.05: -4.4,-2.05 -4.4,2.05 4.4,2.05 4.4,-2.05 -4.4,-2.05
  lines w0.1: -0.5,0 0.5,0 ; 0,-0.5 0,0.5
3D body: height 1.2, standoff 0.05, extent -2.25,-1.55 2.25,1.55

## TI-PW8_N [mm] "SOP, 8-Leads, Body 4.4x3mm, Pitch 0.65mm, IPC Medium Density"
height 1.2
pads (8):
  oval 1.7x0.35 smd: 1(-2.85,0.975) 2(-2.85,0.325) 3(-2.85,-0.325) 4(-2.85,-0.975) 5(2.85,-0.975) 6(2.85,-0.325) 7(2.85,0.325) 8(2.85,0.975)
Top Overlay:
  circle w0.6: c-0.6,0.55 r0.3
  circle w0.25: c-2.85,1.7 r0.125
  lines w0.2: -1.6,-1.55 1.6,-1.55 1.6,1.55 -1.6,1.55 -1.6,-1.55
Mechanical 13:
  circle w0.1: c-1.35,0.65 r0.5
  lines w0.1: -2.25,-1.55 2.25,-1.55 2.25,1.55 -2.25,1.55 -2.25,-1.55
Mechanical 15:
  lines w0.05: -3.95,-1.8 3.95,-1.8 3.95,1.8 -3.95,1.8 -3.95,-1.8
  lines w0.1: -0.5,0 0.5,0 ; 0,-0.5 0,0.5
3D body: height 1.2, standoff 0.05, extent -2.25,-1.55 2.25,1.55

## TI-PW14_L [mm] "SOP, 14-Leads, Body 5x4.4mm, Pitch 0.65mm, IPC High Density"
height 1.2
pads (14):
  oval 1.4x0.35 smd: 1(-2.8,1.95) 2(-2.8,1.3) 3(-2.8,0.65) 4(-2.8,0) 5(-2.8,-0.65) 6(-2.8,-1.3) 7(-2.8,-1.95) 8(2.8,-1.95) 9(2.8,-1.3) 10(2.8,-0.65) 11(2.8,0) 12(2.8,0.65) 13(2.8,1.3) 14(2.8,1.95)
Top Overlay:
  circle w0.25: c-2.8,2.675 r0.125
  circle w0.6: c-0.7,1.55 r0.3
  lines w0.2: -1.7,-2.55 -1.7,2.55 1.7,2.55 1.7,-2.55 -1.7,-2.55
Mechanical 13:
  circle w0.1: c-1.35,1.65 r0.5
  lines w0.1: -2.25,-2.55 -2.25,2.55 2.25,2.55 2.25,-2.55 -2.25,-2.55
Mechanical 15:
  lines w0.05: -3.6,-2.65 -3.6,2.65 3.6,2.65 3.6,-2.65 -3.6,-2.65
  lines w0.1: -0.5,0 0.5,0 ; 0,-0.5 0,0.5
3D body: height 1.2, standoff 0.05, extent -2.25,-2.55 2.25,2.55